# Altium footprint library TO-220FPAB.PcbLib: 1 footprints
Each footprint in its own frame and in the unit in brackets; x right, y up, seen from the top. Pads: shape width x height; smd on the part's side, far side on the other; paste and mask are expansions set on the pad; w line width, h text height; cw(c..) or ccw(c..) is an arc to the next point about the centre after c.
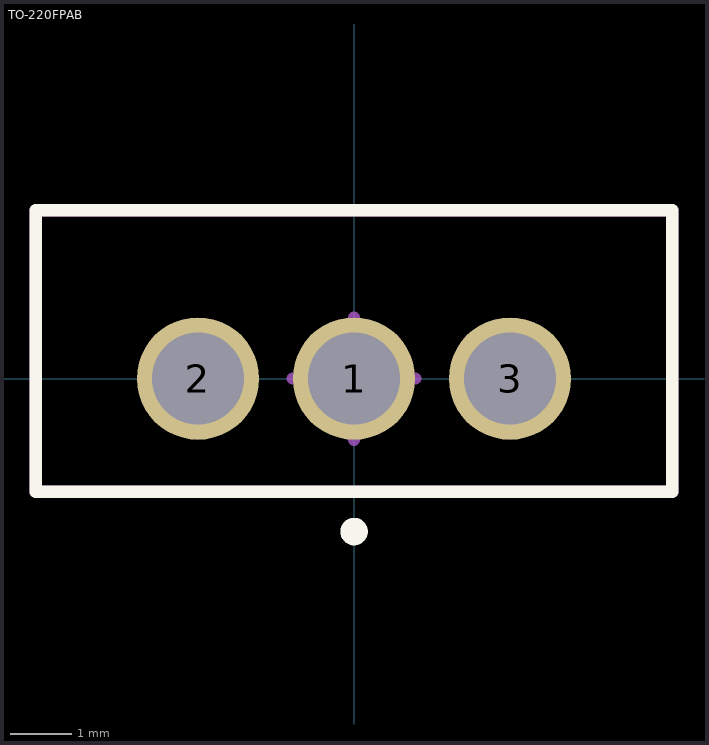
[diagram p0: the footprint, top view; thin cyan lines are the x and y axes]

## TO-220FPAB [mm]
pads (3):
  round 2 hole 1.5 paste-2539.97 mask+0.051: 1(0,0) 2(-2.55,0) 3(2.55,0)
Top Overlay:
  circle w0.25: c0,-2.5 r0.1
  lines w0.2: -5.2,-1.85 -5.2,2.75 5.2,2.75 5.2,-1.85 -5.2,-1.85
Top Designator:
  text ".Designator" at -7.618,-0.414 h1.52
3D Body:
  lines w0.2: -5.2,-1.85 -5.2,2.75 5.2,2.75 5.2,-1.85 -5.2,-1.85
Center Cross:
  lines w0.2: -1,0 0,0 ; 0,-1 0,0 ; 0,1 0,0 ; 1,0 0,0
3D body "TO-220FPAB_STM.step": height 20, standoff -6.49, extent -5.244,-1.685 5.144,2.913